# EAGLE library part DAC:LT145_(12-BIT,SER) (library QuantumOptics)
LTC145x, 12-bit SPI DAC, Linear Technology, int/ext ref, single supply, SO-8. http://www.linear.com/pc/downloadDocument.do?navId=H0,C1,C1155,C1005,C1156,P1017,D3265
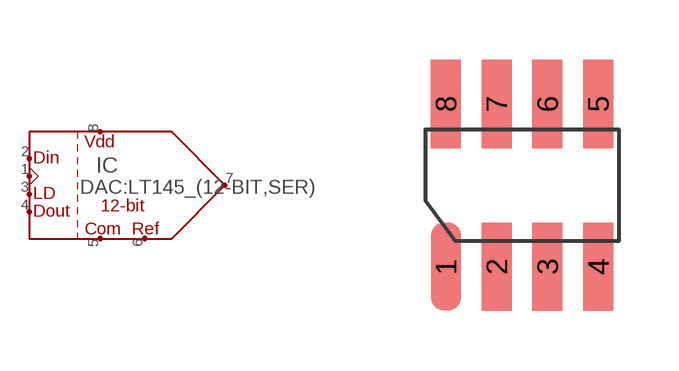
[diagram p58: symbol with the pads of SOIC-8; footprint SOIC-8]

Designator prefix IC

## DAC:LT145_(12-BIT,SER)  [SOIC-8]
1  CLK  in
2  DIN  in
3  CS/LD  in
4  DOUT  out
5  COM
6  REF
7  OUT
8  VDD

## Footprint SOIC-8 (pad centres in mm)
SOIC-8 (AKA SO-8), pads on 0.050" grid.
smd 0.75 x 2.2: 1 -1.905,-2.032; 2 -0.635,-2.032; 3 0.635,-2.032; 4 1.905,-2.032; 5 1.905,2.032; 6 0.635,2.032; 7 -0.635,2.032; 8 -1.905,2.032